# EAGLE library part BOSH-BME680 (library G1Tech-Sensors)
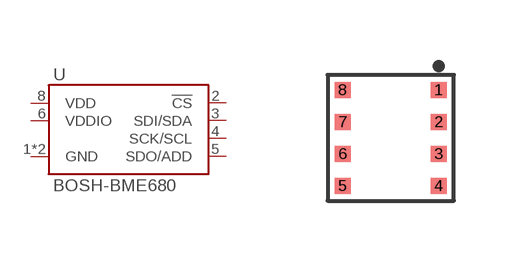
[diagram p0: symbol with the pads of LGA-3.0X3.0; footprint LGA-3.0X3.0]

Designator prefix U

## BOSH-BME680  [LGA-3.0X3.0]
1  GND
2  !CS
3  SDI/SDA
4  SCK/SCL
5  SDO/ADD
6  VDDIO
7  GND
8  VDD

## Footprint LGA-3.0X3.0 (pad centres in mm)
https://ae-bst.resource.bosch.com/media/_tech/media/datasheets/BST-BME680-DS001-00.pdf
smd 0.4 x 0.4: 1 1.2,1.2; 2 1.2,0.4; 3 1.2,-0.4; 4 1.2,-1.2; 5 -1.2,-1.2; 6 -1.2,-0.4; 7 -1.2,0.4; 8 -1.2,1.2